# Altium schematic symbol library Button_Pad_Breakout-v05.SCHLIB: 8 symbols
Pins are listed as number, name and electrical type; pins without a type are passive.

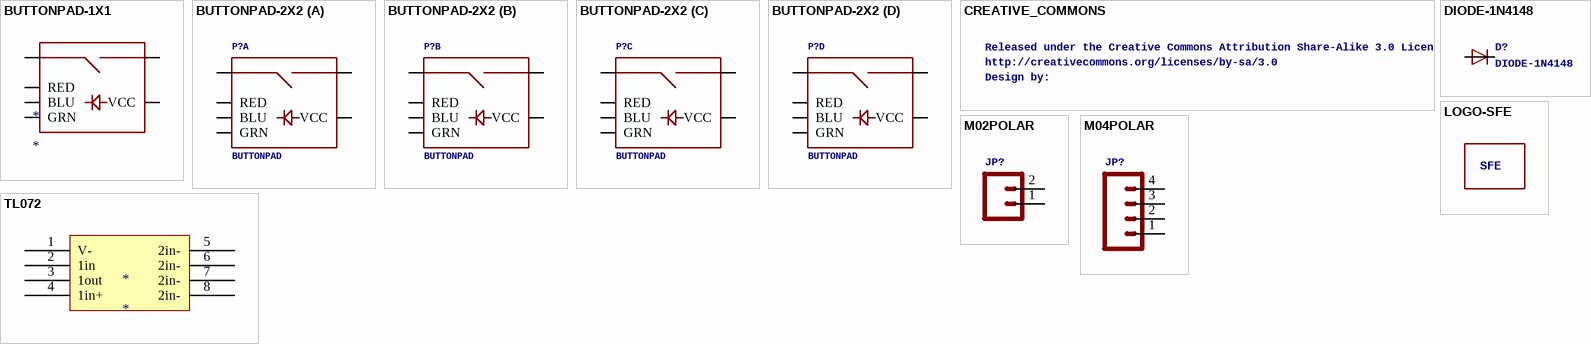
[diagram p0: symbols BUTTONPAD-1X1 to TL072]

## BUTTONPAD-1X1
designator *
footprint BUTTONPAD-1X1
pins: BLU1 BLU, GRN1 GRN, RED1 RED, SIG1, SIG2, VCC1 VCC

## BUTTONPAD-2X2
designator P?, comment BUTTONPAD
5mm Button PadProven layout and schematic for 2x2 button pad. Panelize this device/fp to a 4x4 pad if needed. Spark Fun Electronics SKU : COM-07835. Compatible common cathode tri-color LED SKU : COM-00105
footprint BUTTONPAD-2X2
part A pins: BLU1 BLU, GRN1 GRN, RED1 RED, SIG1, SIG2, VCC1 VCC
part B pins: BLU2 BLU, GRN2 GRN, RED2 RED, SIG3 SIG1, SIG4 SIG2, VCC2 VCC
part C pins: BLU3 BLU, GRN3 GRN, RED3 RED, SIG5 SIG1, SIG6 SIG2, VCC3 VCC
part D pins: BLU4 BLU, GRN4 GRN, RED4 RED, SIG7 SIG1, SIG8 SIG2, VCC4 VCC

## CREATIVE_COMMONS
designator U$?  ReleasedundertheCreativeCommonsAttributionShare-Alike3.0License: Released under the Creative Commons Attribution Share-Alike 3.0 License  Designby: Design by:  (hidden comment: CREATIVE_COMMONS)
http://creativecommons.org/licenses/by-sa/3.0: http://creativecommons.org/licenses/by-sa/3.0
footprint CREATIVE_COMMONS

## DIODE-1N4148
designator D?
footprint DOIDE-1N4148
pins: P$1 A, P$2 C

## LOGO-SFE
designator U$?  (value not drawn)
Spark Fun Electronics PCB LogoThis is the standard Spark Fun Electronics PCB logo.; SFE: SFE
footprint SFE-NEW-WEBLOGO

## M02POLAR
designator JP?  (value not drawn)
Header 2Standard 2-pin 0.1" header. Use with straight break away headers (SKU : PRT-00116), right angle break away headers (PRT-00553), swiss pins (PRT-00743), machine pins (PRT-00117), and female headers (PRT-00115). Molex polarized connector foot print use with SKU : PRT-08233 with associated crimp pins and housings.
footprint MOLEX-1X2
pins: 1, 2

## M04POLAR
designator JP?  (value not drawn)
Header 4Standard 4-pin 0.1" header. Use with straight break away headers (SKU : PRT-00116), right angle break away headers (PRT-00553), swiss pins (PRT-00743), machine pins (PRT-00117), and female headers (PRT-00115). Molex polarized connector foot print use with SKU : PRT-08231 with associated crimp pins and housings.
footprint MOLEX-1X4
pins: 1, 2, 3, 4

## TL072
designator *
pins: 1 V-, 2 1in, 3 1out, 4 1in+, 5 2in-, 6 2in-, 7 2in-, 8 2in-